# Altium footprint library PCB - CONNECTOR - SULLINS SBH11-PBPC-D17-ST-BK.PCBLIB: 1 footprints
Each footprint in its own frame and in the unit in brackets; x right, y up, seen from the top. Pads: shape width x height; smd on the part's side, far side on the other; paste and mask are expansions set on the pad; w line width, h text height; cw(c..) or ccw(c..) is an arc to the next point about the centre after c.
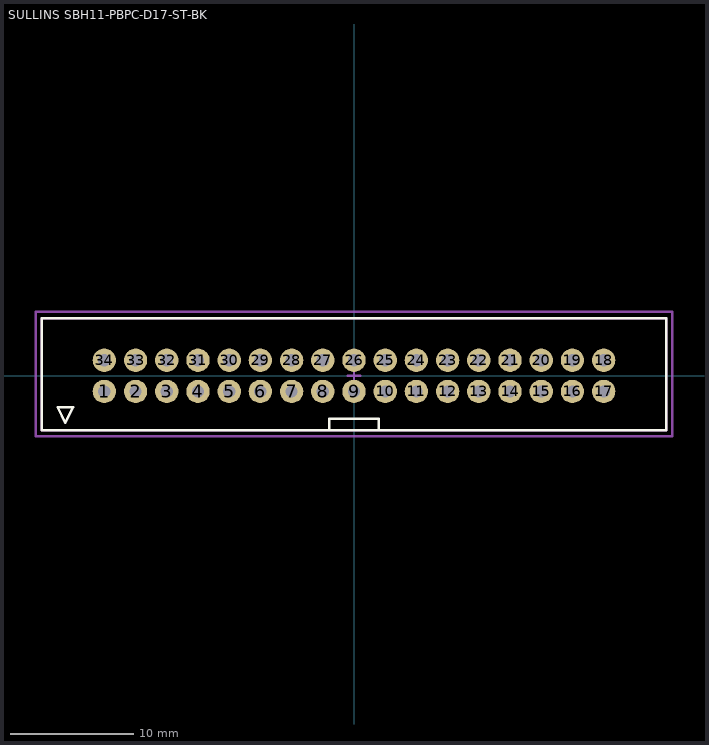
[diagram p0: the footprint, top view; thin cyan lines are the x and y axes]

## SULLINS SBH11-PBPC-D17-ST-BK [mm] "Connector Header Through Hole 34 position 0.100\" (2.54mm)"
height 9.1
pads (34):
  round 1.9 hole 1: 1(-20.32,-1.27) 2(-17.78,-1.27) 3(-15.24,-1.27) 4(-12.7,-1.27) 5(-10.16,-1.27) 6(-7.62,-1.27) 7(-5.08,-1.27) 8(-2.54,-1.27) 9(0,-1.27) 10(2.54,-1.27) 11(5.08,-1.27) 12(7.62,-1.27) 13(10.16,-1.27) 14(12.7,-1.27) 15(15.24,-1.27) 16(17.78,-1.27) 17(20.32,-1.27) 18(20.32,1.27) 19(17.78,1.27) 20(15.24,1.27) 21(12.7,1.27) 22(10.16,1.27) 23(7.62,1.27) 24(5.08,1.27) 25(2.54,1.27) 26(0,1.27) 27(-2.54,1.27) 28(-5.08,1.27) 29(-7.62,1.27) 30(-10.16,1.27) 31(-12.7,1.27) 32(-15.24,1.27) 33(-17.78,1.27) 34(-20.32,1.27)
Top Overlay:
  lines w0.2: -2,-4.445 -2,-3.5 2,-3.5 2,-4.445 ; -25.4,-4.445 -25.4,4.699 25.4,4.699 25.4,-4.445 -25.4,-4.445 ; -24.13,-2.54 -22.86,-2.54 -23.495,-3.81 -24.13,-2.54
Top Component Center:
  lines w0.2: -0.5,0 0.5,0 ; 0,-0.5 0,0.5
Top Component Outline:
  lines w0.2: -25.4,-4.445 -25.4,4.699 25.4,4.699 25.4,-4.445 -25.4,-4.445
Top Assembly:
  lines w0.2: -0.5,1.27 0.5,1.27 ; 0,0.77 0,1.77
Top Courtyard (Mech15):
  lines w0.2: -25.9,-4.9 -25.9,5.2 25.9,5.2 25.9,-4.9 -25.9,-4.9
3D body "Sullins SBH11-PBPC-D17-ST-BK.step": height 9.1, standoff -3, extent -25.34,-4.4 25.34,4.7